# EAGLE library part PN-AMG8331 (library FaBo-Mems)
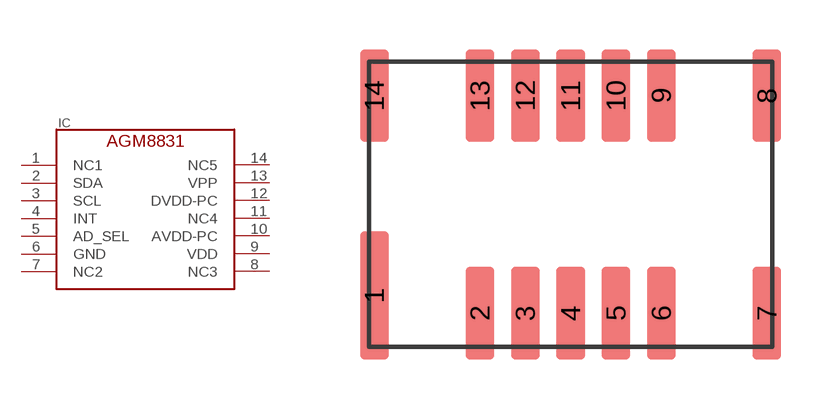
[diagram p18: symbol with the pads of PANASONIC-AMG8831; footprint PANASONIC-AMG8831]

Designator prefix IC

## PN-AMG8331  [PANASONIC-AMG8831]
1  NC1
2  SDA
3  SCL
4  INT
5  AD_SEL
6  GND
7  NC2
8  NC3
9  VDD
10  AVDD-PC
11  NC4
12  DVDD-PC
13  VPP
14  NC5

## Footprint PANASONIC-AMG8831 (pad centres in mm)
smd 0.8 x 3.6: 1 -5.5,-2.55
smd 0.8 x 2.6: 2 -2.54,-3.05; 3 -1.27,-3.05; 4 0,-3.05; 5 1.27,-3.05; 6 2.54,-3.05; 7 5.5,-3.05; 8 5.5,3.05; 9 2.54,3.05; 10 1.27,3.05; 11 0,3.05; 12 -1.27,3.05; 13 -2.54,3.05; 14 -5.5,3.05